# Altium schematic symbol library RT0603BRE07250RL.SchLib: 1 symbol
Pins are listed as number, name and electrical type; pins without a type are passive.

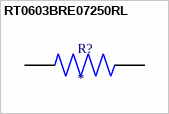
[diagram p0: symbol RT0603BRE07250RL]

## RT0603BRE07250RL
designator R?
250 Ohms Â±0.1% 0.1W, 1/10W Chip Resistor 0603 (1608 Metric) - Thin Film; MF: Yageo; MP: RT0603BRE07250RL; Value: *; SnapEDA_Link: https://www.snapeda.com/parts/RT0603BRE07250RL/Yageo/view-part/?ref=snap; Purchase-URL: https://pricing.snapeda.com/search/part/RT0603BRE07250RL/?ref=eda; Availability: In Stock; Price: None; Package: 1608 Yageo; Check_prices: https://www.snapeda.com/parts/RT0603BRE07250RL/Yageo/view-part/?ref=eda
footprint RESC1608X55N
pins: 1, 2